# Altium integrated library MDT420M01002.IntLib: 1 symbol
Pins are listed as number, name and electrical type; pins without a type are passive.

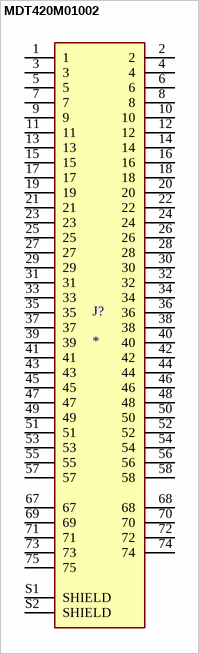
[diagram p0: symbol MDT420M01002]

## MDT420M01002
designator J?
67 Position Female Connector M.2 (NGFF) Mini Card Gold 0.020 (0.50mm) Black; MF: Amphenol; MP: MDT420M01002; Package: None; Price: None; Check_prices: https://www.snapeda.com/parts/MDT420M01002/Amphenol/view-part/?ref=eda; Value: *; SnapEDA_Link: https://www.snapeda.com/parts/MDT420M01002/Amphenol/view-part/?ref=snap; Availability: In Stock; Purchase-URL: https://pricing.snapeda.com/search/part/MDT420M01002/?ref=eda
footprint AMPHENOL_MDT420M01002
pins: 1, 2, 3 (power), 4, 5, 6, 7, 8, 9 (power), 10, 11, 12, 13, 14, 15 (power), 16, 17, 18, 19, 20, 21 (power), 22, 23, 24, 25, 26, 27 (power), 28, 29, 30, 31, 32, 33 (power), 34, 35, 36, 37, 38, 39 (power), 40, 41, 42, 43, 44, 45 (power), 46, 47, 48, 49, 50, 51 (power), 52, 53, 54, 55, 56, 57 (power), 58, 67, 68, 69, 70, 71, 72, 73, 74, 75, S1 SHIELD, S2 SHIELD